# Altium integrated library adafruit.Library.IntLib: 666 symbols (part 6 of 6)
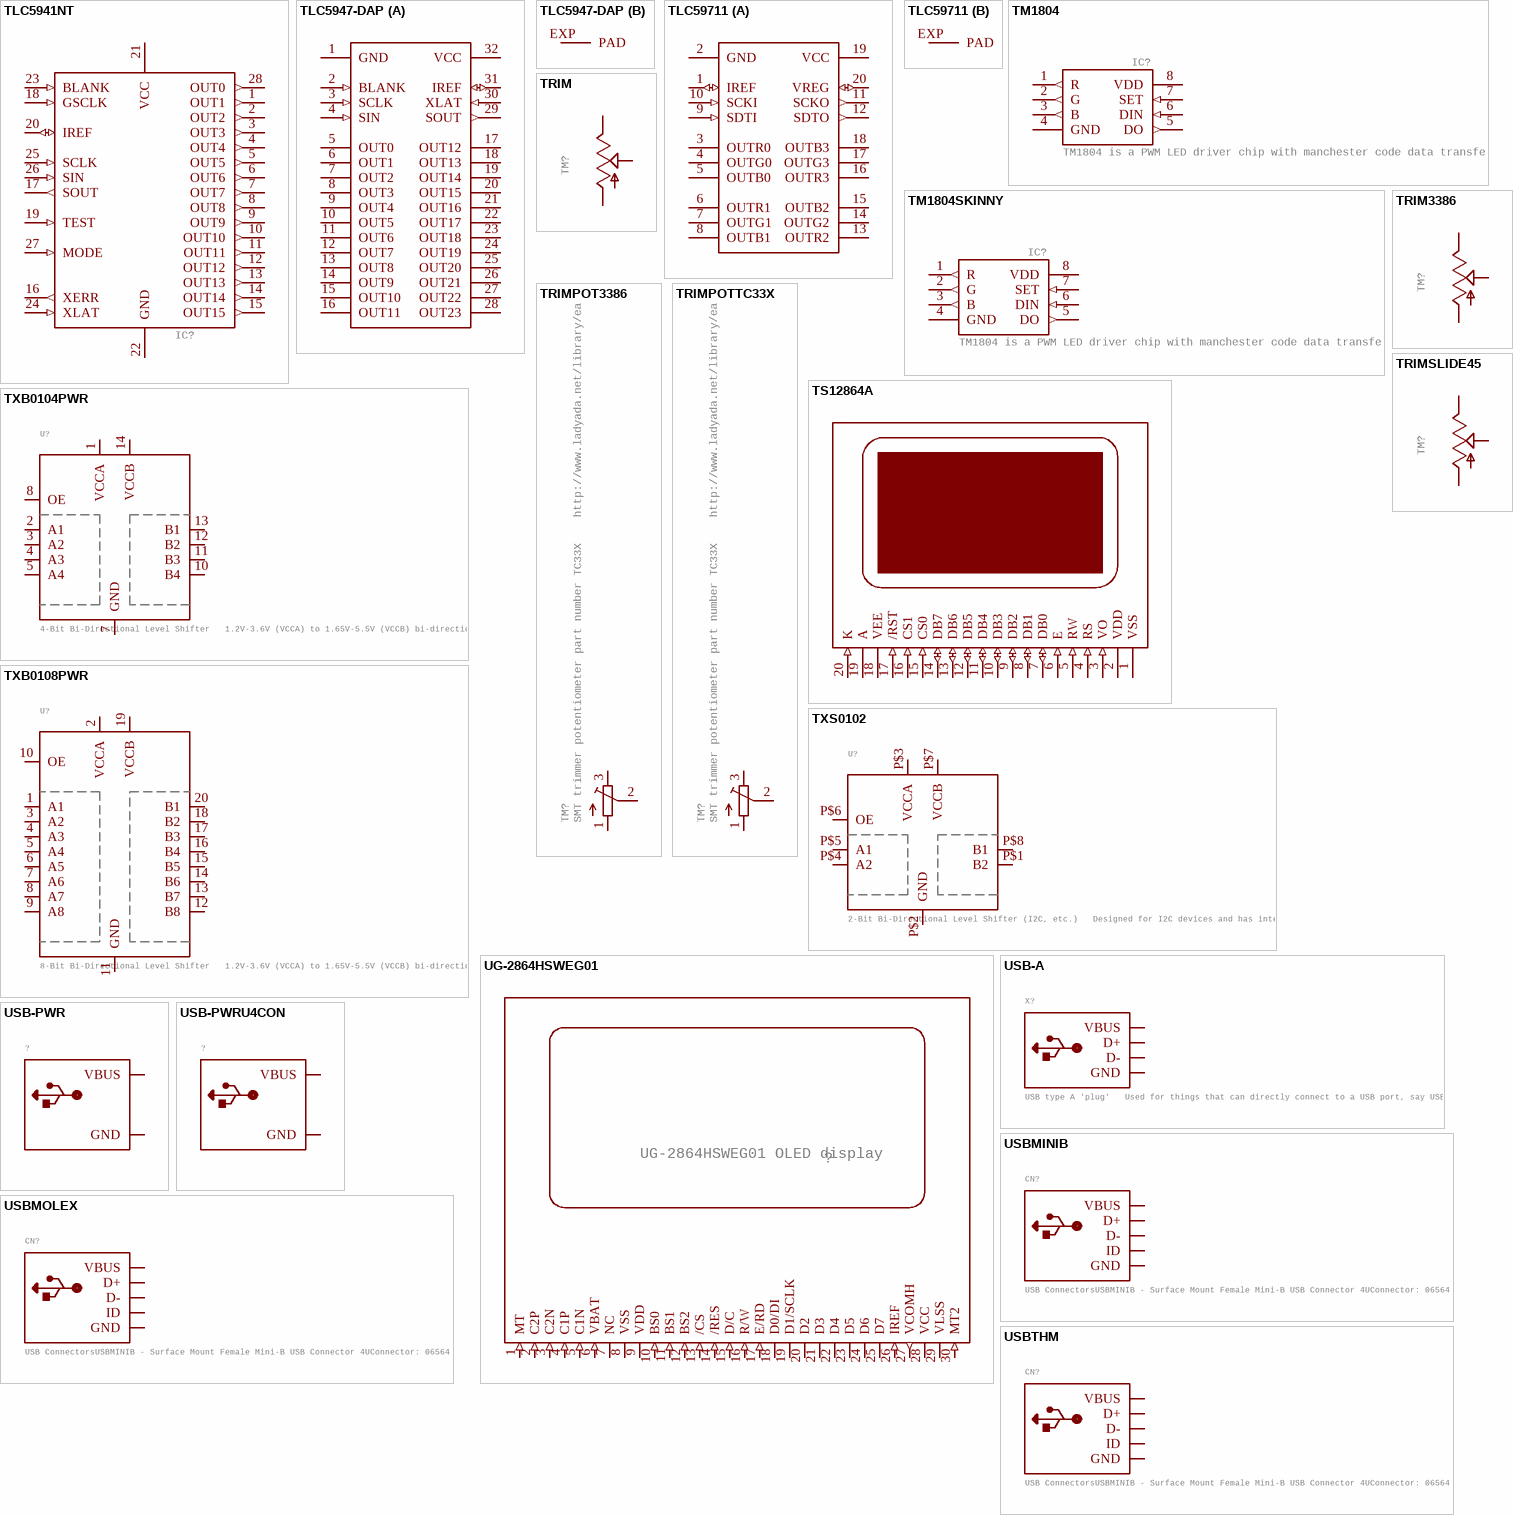
[diagram p32: symbols TLC5941NT to USBTHM]

## TS12864A
designator ?, comment KS0108 based display. Some have slightly different pinouts so double check!  (value not drawn)
GateName_1: G$1; SymbolName_1: GLCD; DeviceSetName: TS12864A; LibraryName: adafruit; Package: TS12864
footprint TS12864
pins: 1 VSS (power), 2 VDD (power), 3 VO (in), 4 RS (in), 5 RW (in), 6 E (in), 7 DB0 (io), 8 DB1 (io), 9 DB2 (io), 10 DB3 (io), 11 DB4 (io), 12 DB5 (io), 13 DB6 (io), 14 DB7 (io), 15 CS0 (in), 16 CS1 (in), 17 /RST (in), 18 VEE (power), 19 A (power), 20 K (in)

## TXB0104PWR
designator U?, comment 4-Bit Bi-Directional Level Shifter   1.2V-3.6V (VCCA) to 1.65V-5.5V (VCCB) bi-directional level shifter with auto direction sensing.    Max data rate - VCCA 1.8V:  20Mbps (50ns), VCCA 3.3V: 100Mbps (10ns)       Digikey: 296-21929-1-ND
GateName_1: G$1; SymbolName_1: TXB0104PWR; LibraryName: adafruit; DeviceSetName: TXB0104PWR; Package: TSSOP14
footprint TSSOP14
pins: 1 VCCA (io), 2 A1 (io), 3 A2 (io), 4 A3 (io), 5 A4 (io), 7 GND (io), 8 OE (io), 10 B4 (io), 11 B3 (io), 12 B2 (io), 13 B1 (io), 14 VCCB (io)

## TXB0108PWR
designator U?, comment 8-Bit Bi-Directional Level Shifter   1.2V-3.6V (VCCA) to 1.65V-5.5V (VCCB) bi-directional level shifter with auto direction sensing.    Max data rate - VCCA 1.8V:  20Mbps (50ns), VCCA 3.3V: 100Mbps (10ns)       Digikey: 296-21527-1-ND
GateName_1: G$1; SymbolName_1: TXB0108PWR; LibraryName: adafruit; DeviceSetName: TXB0108PWR; Package: TSSOP20
footprint TSSOP20
pins: 1 A1 (io), 2 VCCA (io), 3 A2 (io), 4 A3 (io), 5 A4 (io), 6 A5 (io), 7 A6 (io), 8 A7 (io), 9 A8 (io), 10 OE (io), 11 GND (io), 12 B8 (io), 13 B7 (io), 14 B6 (io), 15 B5 (io), 16 B4 (io), 17 B3 (io), 18 B2 (io), 19 VCCB (io), 20 B1 (io)

## TXS0102
designator U?, comment 2-Bit Bi-Directional Level Shifter (I2C, etc.)   Designed for I2C devices and has internal pullups.  Not to be confused with TXB010x series.   1.2V-3.6V (VCCA) to 1.65V-5.5V (VCCB) bi-directional level shifter with auto direction sensing.    Max data rate - 24Mbps (Push Pull), 2Mbps (Open Drain)       Digikey: 296-21931-1-ND
GateName_1: G$1; SymbolName_1: TXS0102; LibraryName: adafruit; DeviceSetName: TXS0102; Package: VFSOP-8
footprint VFSOP-8
pins: P$1 B2 (io), P$2 GND (io), P$3 VCCA (io), P$4 A2 (io), P$5 A1 (io), P$6 OE (io), P$7 VCCB (io), P$8 B1 (io)

## UG-2864HSWEG01
designator ?, comment UG-2864HSWEG01 OLED display
GateName_1: G$1; SymbolName_1: UG-2864HSWEG01; LibraryName: adafruit; DeviceSetName: UG-2864HSWEG01; Package: 1X30-0.7MM
footprint 1X30-0.7MM
pins: 1 MT (in), 2 C2P (in), 3 C2N (in), 4 C1P (in), 5 C1N (in), 6 VBAT (in), 7 NC, 8 VSS (power), 9 VDD (power), 10 BS0 (in), 11 BS1 (in), 12 BS2 (in), 13 /CS (in), 14 /RES (in), 15 D/C (in), 16 R/W (in), 17 E/RD (in), 18 D0/DI (io), 19 D1/SCLK (io), 20 D2 (io), 21 D3 (io), 22 D4 (io), 23 D5 (io), 24 D6 (io), 25 D7 (io), 26 IREF (in), 27 VCOMH (out), 28 VCC (power), 29 VLSS (power), 30 MT2 (in)

## USB-A
designator X?, comment USB type A 'plug'   Used for things that can directly connect to a USB port, say USB key
GateName_1: G$1; SymbolName_1: USB-4; DeviceSetName: USB-A; LibraryName: adafruit; Package: MOLEX_480371000
footprint MOLEX_480371000
pins: 1 VBUS (power), 2 D- (io), 3 D+ (io), 4 GND (power)

## USB-PWR
designator ?
GateName_1: G$1; SymbolName_1: USB-PWR; LibraryName: adafruit; DeviceSetName: USB-PWR; Package: USB-MINIB-THM-MOLEX-PWRONLY
footprint USB-MINIB-THM-MOLEX-PWRONLY
pins: GND (power), VBUS (power)

## USB-PWRU4CON
designator ?
GateName_1: G$1; SymbolName_1: USB-PWR; DeviceName: U4CON; LibraryName: adafruit; DeviceSetName: USB-PWR; Package: USB-MINIB-THM-PWRONLY
footprint USB-MINIB-THM-PWRONLY
pins: GND (power), VBUS (power)

## USBMINIB
designator CN?, comment USB ConnectorsUSBMINIB - Surface Mount Female Mini-B USB Connector 4UConnector: 06564   By microbuilder.euThru-hole RA Female Mini-B USB Connector 4UConnector: 18732   By ladyada.net
GateName_1: G$1; DeviceName: MINIB; SymbolName_1: USB; LibraryName: adafruit; DeviceSetName: USB; Package: USB-MINIB
footprint USB-MINIB
pins: D+ (io), D- (io), GND (power), ID (io), VBUS (power)

## USBMOLEX
designator CN?, comment USB ConnectorsUSBMINIB - Surface Mount Female Mini-B USB Connector 4UConnector: 06564   By microbuilder.euThru-hole RA Female Mini-B USB Connector 4UConnector: 18732   By ladyada.net
GateName_1: G$1; DeviceName: MOLEX; SymbolName_1: USB; LibraryName: adafruit; DeviceSetName: USB; Package: USB-MINIB-THM-MOLEX
footprint USB-MINIB-THM-MOLEX
pins: D+ (io), D- (io), GND (power), ID (io), VBUS (power)

## USBTHM
designator CN?, comment USB ConnectorsUSBMINIB - Surface Mount Female Mini-B USB Connector 4UConnector: 06564   By microbuilder.euThru-hole RA Female Mini-B USB Connector 4UConnector: 18732   By ladyada.net
GateName_1: G$1; DeviceName: THM; SymbolName_1: USB; LibraryName: adafruit; DeviceSetName: USB; Package: USB-MINIB-THM
footprint USB-MINIB-THM
pins: D+ (io), D- (io), GND (power), ID (io), VBUS (power)

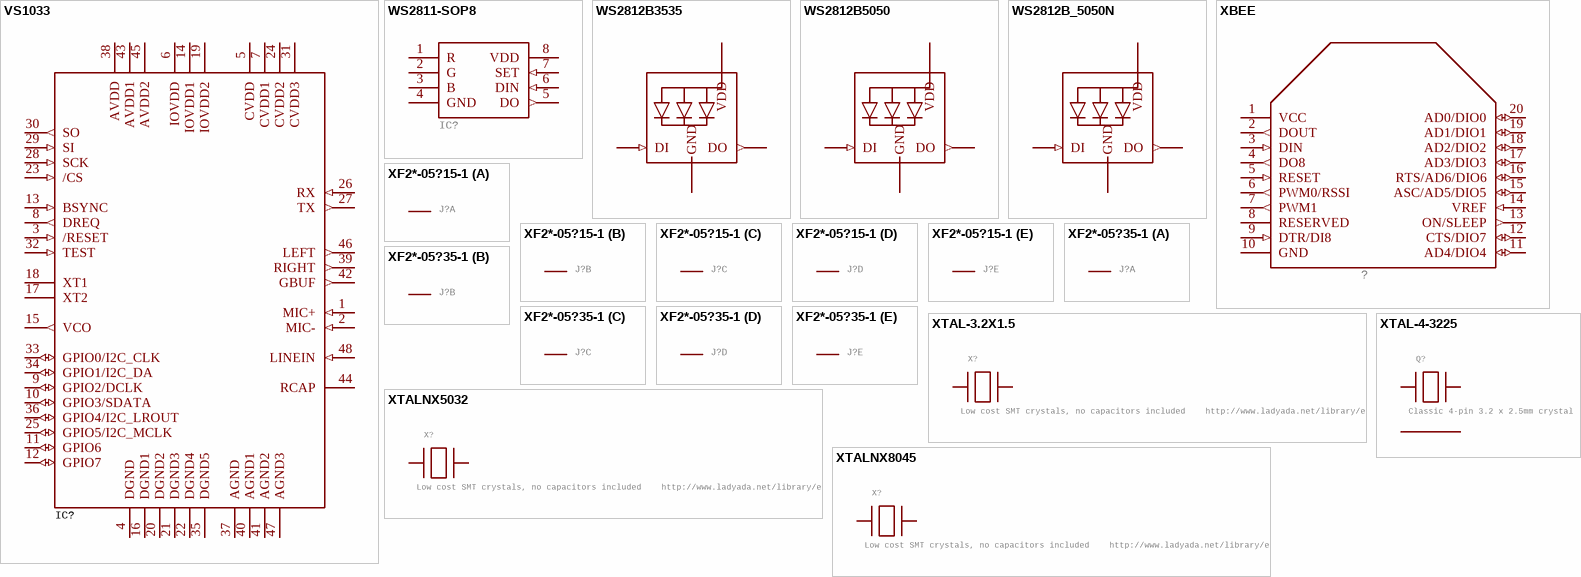
[diagram p27: symbols VS1033 to XTALNX8045]

## VS1033
designator IC?
GateName_1: G$1; SymbolName_1: VS1033; LibraryName: adafruit; DeviceSetName: VS1033; Package: SQFP-S-7X7-48
footprint SQFP-S-7X7-48
pins: 1 MIC+ (in), 2 MIC- (in), 3 /RESET (in), 4 DGND (power), 5 CVDD (power), 6 IOVDD (power), 7 CVDD1 (power), 8 DREQ (out), 9 GPIO2/DCLK (io), 10 GPIO3/SDATA (io), 11 GPIO6 (io), 12 GPIO7 (io), 13 BSYNC (in), 14 IOVDD1 (power), 15 VCO (out), 16 DGND1 (power), 17 XT2, 18 XT1, 19 IOVDD2 (power), 20 DGND2 (power), 21 DGND3 (power), 22 DGND4 (power), 23 /CS (in), 24 CVDD2 (power), 25 GPIO5/I2C_MCLK (io), 26 RX (in), 27 TX (out), 28 SCK (in), 29 SI (in), 30 SO (out), 31 CVDD3 (power), 32 TEST (in), 33 GPIO0/I2C_CLK (io), 34 GPIO1/I2C_DA (io), 35 DGND5 (power), 36 GPIO4/I2C_LROUT (io), 37 AGND (power), 38 AVDD (power), 39 RIGHT (out), 40 AGND1 (power), 41 AGND2 (power), 42 GBUF (out), 43 AVDD1 (power), 44 RCAP, 45 AVDD2 (power), 46 LEFT (out), 47 AGND3 (power), 48 LINEIN (in)

## WS2811-SOP8
designator IC?
GateName_1: G$1; SymbolName_1: WS2811; DeviceName: -SOP8; LibraryName: adafruit; DeviceSetName: WS2811; Package: SO08-SKINNYPADS
footprint SO08-SKINNYPADS
pins: 1 R (oc), 2 G (oc), 3 B (oc), 4 GND (power), 5 DO (out), 6 DIN (in), 7 SET (in), 8 VDD (power)

## WS2812B3535
designator LED?
GateName_1: G$1; SymbolName_1: WS2812BLED; DeviceName: 3535; DeviceSetName: WS2812B; LibraryName: adafruit; Package: LED3535
footprint LED3535
pins: 1 DI (in), 2 VDD (power), 3 DO (out), 4 GND (power)

## WS2812B5050
designator LED?
GateName_1: G$1; SymbolName_1: WS2812BLED; DeviceName: 5050; DeviceSetName: WS2812B; LibraryName: adafruit; Package: WS2812B
footprint WS2812B
pins: 1-VDD VDD (power), 2-DOUT DO (out), 3-GND GND (power), 4-DIN DI (in)

## WS2812B_5050N
designator LED?
GateName_1: G$1; SymbolName_1: WS2812BLED; DeviceName: _5050N; DeviceSetName: WS2812B; LibraryName: adafruit; Package: WS2812B-NARROW
footprint WS2812B-NARROW
pins: 1-VDD VDD (power), 2-DOUT DO (out), 3-GND GND (power), 4-DIN DI (in)

## XBEE
designator ?
GateName_1: G$1; SymbolName_1: XBEE; LibraryName: adafruit; DeviceSetName: XBEE; Package: XBEE
footprint XBEE
pins: 1 VCC (power), 2 DOUT (out), 3 DIN (in), 4 DO8 (out), 5 RESET (in), 6 PWM0/RSSI (out), 7 PWM1 (out), 8 RESERVED, 9 DTR/DI8 (in), 10 GND (power), 11 AD4/DIO4 (io), 12 CTS/DIO7 (io), 13 ON/SLEEP (out), 14 VREF (in), 15 ASC/AD5/DIO5 (io), 16 RTS/AD6/DIO6 (io), 17 AD3/DIO3 (io), 18 AD2/DIO2 (io), 19 AD1/DIO1 (io), 20 AD0/DIO0 (io)

## XF2*-05?15-1
designator J?, comment OMRON FPC Connector   Source : http://www.omron.com/ecb/products/pdf/fpc.pdf  (value not drawn)
GateName_1: -1; SymbolName_1: PV; GateName_2: -2; SymbolName_2: P; GateName_3: -3; GateName_4: -4; GateName_5: -5; DeviceName: 15-1; DeviceSetName: XF2*-05?; SymbolName_3: P; SymbolName_4: P; SymbolName_5: P; LibraryName: adafruit; Package: XF2E-0515-1
footprint XF2E-0515-1
part A pins: 1 MSV
part B pins: 2 MS
part C pins: 3 MS
part D pins: 4 MS
part E pins: 5 MS

## XF2*-05?35-1
designator J?, comment OMRON FPC Connector   Source : http://www.omron.com/ecb/products/pdf/fpc.pdf  (value not drawn)
GateName_1: -1; SymbolName_1: PV; GateName_2: -2; SymbolName_2: P; GateName_3: -3; GateName_4: -4; GateName_5: -5; DeviceName: 35-1; DeviceSetName: XF2*-05?; SymbolName_3: P; SymbolName_4: P; SymbolName_5: P; LibraryName: adafruit; Package: XF2L-0535-1
footprint XF2L-0535-1
part A pins: 1 MSV
part B pins: 2 MS
part C pins: 3 MS
part D pins: 4 MS
part E pins: 5 MS

## XTAL-3.2X1.5
designator X?, comment Low cost SMT crystals, no capacitors included    http://www.ladyada.net/library/eagle
GateName_1: G$1; SymbolName_1: XTAL; DeviceName: -3.2X1.5; LibraryName: adafruit; DeviceSetName: XTAL; Package: XTAL3215
footprint XTAL3215
pins: P$1 (io), P$2 (io)

## XTAL-4-3225
designator Q?, comment Classic 4-pin 3.2 x 2.5mm crystal
GateName_1: G$1; SymbolName_1: XTAL-4; DeviceName: -3225; LibraryName: adafruit; DeviceSetName: XTAL-4; Package: NX3225
footprint NX3225
pins: 1 X1 (io), 2 G2 (power), 3 X2 (io), 4 G1 (power)

## XTALNX5032
designator X?, comment Low cost SMT crystals, no capacitors included    http://www.ladyada.net/library/eagle
GateName_1: G$1; SymbolName_1: XTAL; DeviceName: NX5032; LibraryName: adafruit; DeviceSetName: XTAL; Package: NX5032
footprint NX5032
pins: P$1 (io), P$2 (io)

## XTALNX8045
designator X?, comment Low cost SMT crystals, no capacitors included    http://www.ladyada.net/library/eagle
GateName_1: G$1; SymbolName_1: XTAL; DeviceName: NX8045; LibraryName: adafruit; DeviceSetName: XTAL; Package: NX8045
footprint NX8045
pins: P$1 (io), P$2 (io)